# EAGLE library part KXM52-1050_MODULE (library akizuki_KXM52-1050)
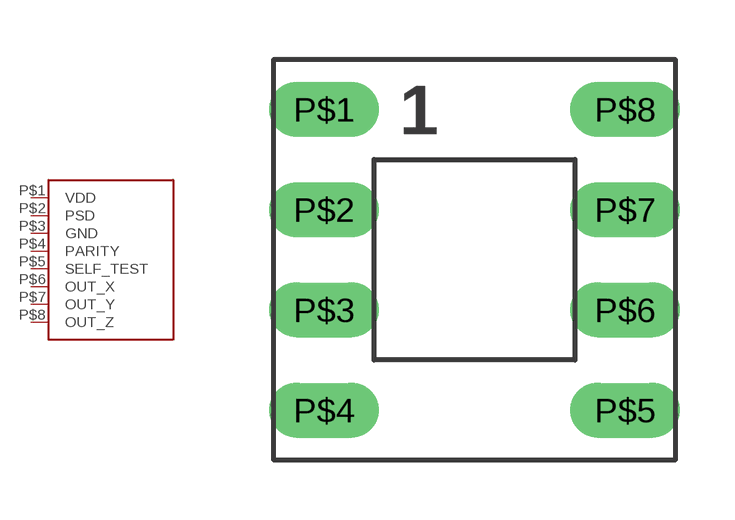
[diagram p0: symbol with the pads of KXM52-1050_MODULE; footprint KXM52-1050_MODULE]

Designator prefix -

## KXM52-1050_MODULE  [KXM52-1050_MODULE]
P$1  VDD  pwr
P$2  PSD  in
P$3  GND  pwr
P$4  PARITY  in
P$5  SELF_TEST  in
P$6  OUT_X  out
P$7  OUT_Y  out
P$8  OUT_Z  out

## Footprint KXM52-1050_MODULE (pad centres in mm)
drill 0.889 long: P$1 -3.81,3.81; P$2 -3.81,1.27; P$3 -3.81,-1.27; P$4 -3.81,-3.81; P$5 3.81,-3.81; P$6 3.81,-1.27; P$7 3.81,1.27; P$8 3.81,3.81